# EAGLE library part LT3467 (library AWJLEagleLib)
LT3467 switch mode controller
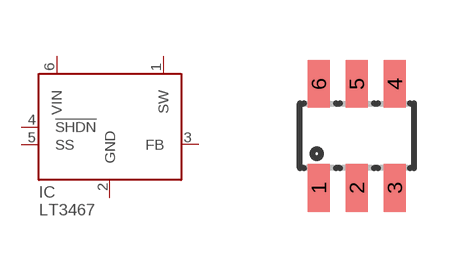
[diagram p8: symbol with the pads of SOT23-6; footprint SOT23-6]

Designator prefix IC

## LT3467  [SOT23-6]
1  SW  pwr
2  GND  pwr
3  FB
4  !SHDN
5  SS
6  VIN  pwr

## Footprint SOT23-6 (pad centres in mm)
smd 0.55 x 1.2: 1 -0.95,-1.3; 2 0,-1.3; 3 0.95,-1.3; 4 0.95,1.3; 5 0,1.3; 6 -0.95,1.3